# EAGLE library part TFDU4100 (library TFDU4100)
The TFDU4100 is an infrared transceiver module compliant with the IrDA standard for serial infrared (SIR) data communication, supporting IrDA speeds up to 115.2 kbit/s. The transceiver module consists of a PIN photodiode, an infrared emitter (IRED), and a low-power analog control IC to provide a total frontend solution in a single package. This SIR transceiver is using the small BabyFace package. The transceivers are capable of directly interfacing with a wide variety of I/O chips which perform the pulse-width modulation/demodulation function, including Vishay Semiconductors’ TOIM4232. At a minimum, a cur rent-limiting resistor in series with the infrared emitter and a VCC bypass capacitor are the only external components required to implement a complete solution.
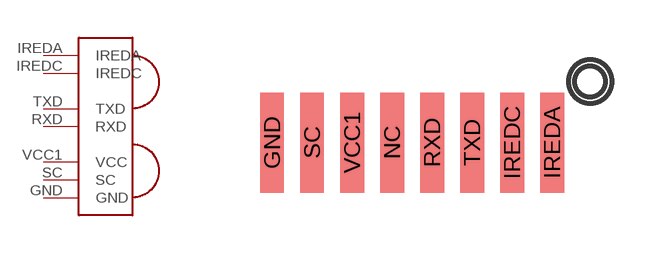
[diagram p0: symbol with the pads of SMD-8; footprint SMD-8]

Designator prefix -

## TFDU4100 (PACKAGE: SMD-8; PARTNO: TFDU4100)  [SMD-8]
GND  GND
IREDA  IREDA
IREDC  IREDC
RXD  RXD
SC  SC
TXD  TXD
VCC1  VCC

## Footprint SMD-8 (pad centres in mm)
SMD-8 Package
smd 0.6 x 2.5: GND -3,0; IREDA 4,0; IREDC 3,0; NC 0,0; RXD 1,0; SC -2,0; TXD 2,0; VCC1 -1,0